# Altium schematic symbol library WL-SFTW.SchLib: 6 symbols
Pins are listed as number, name and electrical type; pins without a type are passive.

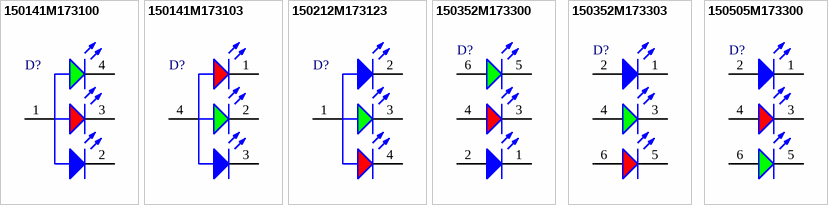
[diagram p0: symbols 150141M173100 to 150505M173300]

## 150141M173100
designator D?, comment Red & Green & Blue  (value not drawn)
WL-SFTW Full-color TOP LED Waterclear, SMT, size 3528, Red & Green & Blue, 120°; Manufacturer Part Number: 150141M173100; Manufacturer: Wurth Elektronik; Case/Size Code: 3528; Chip Technology: AlInGaP + InGaN; Dominant Wavelength (Blue): 470nm; Dominant Wavelength (Green): 520nm; Dominant Wavelength (Red): 625nm; Forward Voltage (Blue): 3.2V; Forward Voltage (Red): 2V; Luminous Intensity (Blue): 230mcd; Luminous Intensity (Green): 950mcd; Luminous Intensity (Red): 270mcd; Peak Wavelength (Blue): 465nm; Peak Wavelength (Green): 515nm; Peak Wavelength (Red): 635nm; Category: Signal LEDs; Match Code: WL-SFTW; ComponentLink1Description: Website Link; ComponentLink1URL: https://www.we-online.com/redexpert/article/150141M173100?ad; ComponentLink2Description: Datasheet Link; ComponentLink2URL: https://www.we-online.com/redexpert/spec/150141M173100?ad; Mount: Surface Mount; Min Operating Temperature: -40°C; Max Operating Temperature: 85°C; Packaging: Tape and Reel; Length: 3.5mm; Width: 2.8mm; Height: 1.9mm; Emitting Color: Red & Green & Blue; Forward Voltage (Green): 3.2V; Viewing Angle: 120°
footprint WL-SFTW_3528_150141M173100
simulation model 3528_150141M173100
pins: 1 A, 2 K, 3 K, 4 K

## 150141M173103
designator D?, comment Red & Green & Blue  (value not drawn)
WL-SFTW Full-color TOP LED Waterclear, SMT, size 3528, Red & Green & Blue, 120°; Manufacturer Part Number: 150141M173103; Manufacturer: Wurth Elektronik; Case/Size Code: 3528; Chip Technology: AlInGaP + InGaN; Dominant Wavelength (Blue): 470nm; Dominant Wavelength (Green): 525nm; Dominant Wavelength (Red): 625nm; Forward Voltage (Blue): 3.2V; Forward Voltage (Red): 2.2V; Luminous Intensity (Blue): 550mcd; Luminous Intensity (Green): 2000mcd; Luminous Intensity (Red): 900mcd; Category: Signal LEDs; Match Code: WL-SFTW; ComponentLink1Description: Website Link; ComponentLink1URL: https://www.we-online.com/redexpert/article/150141M173103?ad; ComponentLink2Description: Datasheet Link; ComponentLink2URL: https://www.we-online.com/redexpert/spec/150141M173103?ad; Mount: Surface Mount; Min Operating Temperature: -40°C; Max Operating Temperature: 85°C; Packaging: Tape and Reel; Length: 3.5mm; Width: 2.8mm; Height: 1.9mm; Emitting Color: Red & Green & Blue; Forward Voltage (Green): 3.2V; Peak Wavelength (Blue): 470nm; Peak Wavelength (Green): 525nm; Peak Wavelength (Red): 625nm; Viewing Angle: 120°
footprint WL-SFTW_3528_150141M173103
simulation model 3528_150141M173103
pins: 1 K, 2 K, 3 K, 4 A

## 150212M173123
designator D?, comment Red & Green & Blue  (value not drawn)
WL-SFTW Full-color TOP LED Waterclear, SMT, size 2121, Red & Green & Blue, 120°; Manufacturer Part Number: 150212M173123; Manufacturer: Wurth Elektronik; Case/Size Code: 2121; Chip Technology: AlInGaP + InGaN; Dominant Wavelength (Blue): 470nm; Dominant Wavelength (Green): 530nm; Dominant Wavelength (Red): 620nm; Forward Voltage (Blue): 2.8V; Forward Voltage (Red): 2V; Luminous Intensity (Blue): 220mcd; Luminous Intensity (Green): 1100mcd; Luminous Intensity (Red): 340mcd; Peak Wavelength (Blue): 465nm; Peak Wavelength (Green): 515nm; Peak Wavelength (Red): 630nm; Category: Signal LEDs; Match Code: WL-SFTW; ComponentLink1Description: Website Link; ComponentLink1URL: https://www.we-online.com/redexpert/article/150212M173123?ad; ComponentLink2Description: Datasheet Link; ComponentLink2URL: https://www.we-online.com/redexpert/spec/150212M173123?ad; Mount: Surface Mount; Min Operating Temperature: -40°C; Max Operating Temperature: 85°C; Packaging: Tape and Reel; Length: 2.1mm; Width: 2.1mm; Height: 1mm; Emitting Color: Red & Green & Blue; Forward Voltage (Green): 2.8V; Viewing Angle: 120°
footprint WL-SFTW_2121_150212M173123
simulation model 2121_150212M173123
pins: 1 A, 2 K, 3 K, 4 K

## 150352M173300
designator D?, comment Red & Green & Blue  (value not drawn)
WL-SFTW Full-color TOP LED Waterclear, SMT, size 3528, Red & Green & Blue, 120°; Manufacturer Part Number: 150352M173300; Manufacturer: Wurth Elektronik; Case/Size Code: 3528; Chip Technology: AlInGaP + InGaN; Dominant Wavelength (Blue): 470nm; Dominant Wavelength (Green): 520nm; Dominant Wavelength (Red): 625nm; Forward Voltage (Blue): 3.2V; Forward Voltage (Red): 2V; Luminous Intensity (Blue): 400mcd; Luminous Intensity (Green): 1700mcd; Luminous Intensity (Red): 750mcd; Peak Wavelength (Blue): 465nm; Peak Wavelength (Green): 515nm; Peak Wavelength (Red): 635nm; Category: Signal LEDs; Match Code: WL-SFTW; ComponentLink1Description: Website Link; ComponentLink1URL: https://www.we-online.com/redexpert/article/150352M173300?ad; ComponentLink2Description: Datasheet Link; ComponentLink2URL: https://www.we-online.com/redexpert/spec/150352M173300?ad; Mount: Surface Mount; Min Operating Temperature: -40°C; Max Operating Temperature: 85°C; Packaging: Tape and Reel; Length: 3.5mm; Width: 2.8mm; Height: 1.9mm; Emitting Color: Red & Green & Blue; Forward Voltage (Green): 3.2V; Viewing Angle: 120°
footprint WL-SFTW_3528_150352M173300
simulation model 3528_150352M173300
pins: 1 K, 2 A, 3 K, 4 A, 5 K, 6 A

## 150352M173303
designator D?, comment Red & Green & Blue  (value not drawn)
WL-SFTW Full-color TOP LED Waterclear, SMT, size 3528, Red & Green & Blue, 120°; Manufacturer Part Number: 150352M173303; Manufacturer: Wurth Elektronik; Case/Size Code: 3528; Chip Technology: AlInGaP + InGaN; Dominant Wavelength (Blue): 470nm; Dominant Wavelength (Green): 520nm; Dominant Wavelength (Red): 625nm; Forward Voltage (Blue): 3.2V; Forward Voltage (Red): 2V; Luminous Intensity (Blue): 600mcd; Luminous Intensity (Green): 1900mcd; Luminous Intensity (Red): 500mcd; Peak Wavelength (Blue): 465nm; Peak Wavelength (Green): 515nm; Peak Wavelength (Red): 635nm; Category: Signal LEDs; Match Code: WL-SFTW; ComponentLink1Description: Website Link; ComponentLink1URL: https://www.we-online.com/redexpert/article/150352M173303?ad; ComponentLink2Description: Datasheet Link; ComponentLink2URL: https://www.we-online.com/redexpert/spec/150352M173303?ad; Mount: Surface Mount; Min Operating Temperature: -40°C; Max Operating Temperature: 85°C; Packaging: Tape and Reel; Length: 3.5mm; Width: 2.8mm; Height: 1.9mm; Emitting Color: Red & Green & Blue; Forward Voltage (Green): 3.2V; Viewing Angle: 120°
footprint WL-SFTW_3528_150352M173303
simulation model 3528_150352M173303
pins: 1 K, 2 A, 3 K, 4 A, 5 K, 6 A

## 150505M173300
designator D?, comment Red & Green & Blue  (value not drawn)
WL-SFTW Full-color TOP LED Waterclear, SMT, size 5050, Red & Green & Blue, 120°; Manufacturer Part Number: 150505M173300; Manufacturer: Wurth Elektronik; Case/Size Code: 5050; Chip Technology: AlInGaP + InGaN; Dominant Wavelength (Blue): 470nm; Dominant Wavelength (Green): 520nm; Dominant Wavelength (Red): 625nm; Forward Voltage (Blue): 3.2V; Forward Voltage (Red): 2V; Luminous Intensity (Blue): 350mcd; Luminous Intensity (Green): 1300mcd; Luminous Intensity (Red): 800mcd; Peak Wavelength (Blue): 465nm; Peak Wavelength (Green): 515nm; Peak Wavelength (Red): 635nm; Category: Signal LEDs; Match Code: WL-SFTW; ComponentLink1Description: Website Link; ComponentLink1URL: https://www.we-online.com/redexpert/article/150505M173300?ad; ComponentLink2Description: Datasheet Link; ComponentLink2URL: https://www.we-online.com/redexpert/spec/150505M173300?ad; Mount: Surface Mount; Min Operating Temperature: -40°C; Max Operating Temperature: 85°C; Packaging: Tape and Reel; Length: 5.4mm; Width: 5mm; Height: 1.5mm; Emitting Color: Red & Green & Blue; Forward Voltage (Green): 3.2V; Viewing Angle: 120°
footprint WL-SFTW_5050_150505M173300
simulation model 5050_150505M173300
pins: 1 K, 2 A, 3 K, 4 A, 5 K, 6 A